# Altium footprint library POT_16MM_TH_RA.PcbLib: 1 footprints
Each footprint in its own frame and in the unit in brackets; x right, y up, seen from the top. Pads: shape width x height; smd on the part's side, far side on the other; paste and mask are expansions set on the pad; w line width, h text height; cw(c..) or ccw(c..) is an arc to the next point about the centre after c.
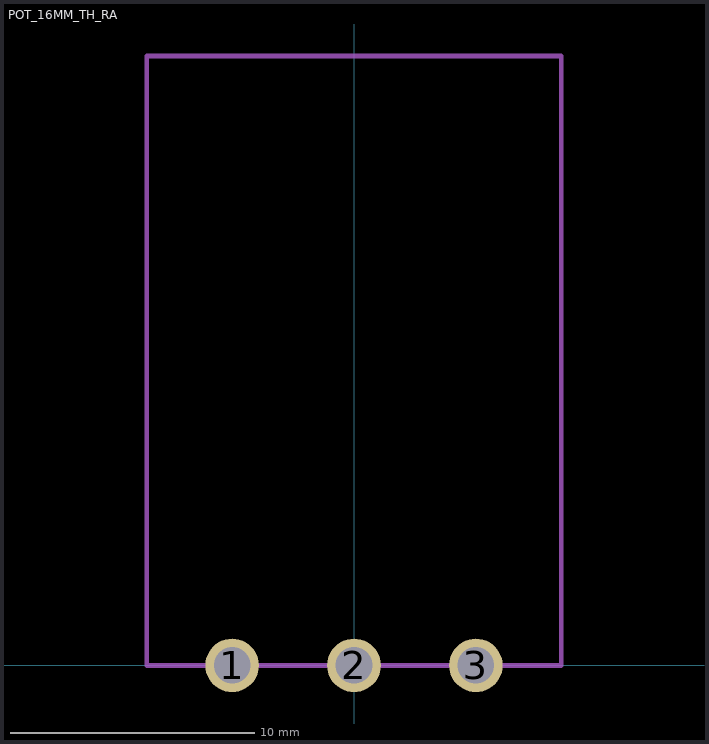
[diagram p0: the footprint, top view; thin cyan lines are the x and y axes]

## POT_16MM_TH_RA [mm] "Potentiometer, 16mm, Through-Hole, Right-Angle"
height 10.9
pads (3):
  round 2.2 hole 1.5: 1(-5,0) 2(0,0) 3(5,0)
Courtyards/Models-Top:
  lines w0.2: -8.5,0 8.5,0 8.5,25 -8.5,25 -8.5,0
  text ".Designator" at -4,15 h1.52
Design Notes:
  text "Clearance 1.8mm" at -4,23 h1
3D body: height 27.4, standoff 1.8, extent -3.175,13.325 3.175,19.675
3D body: height 10.9, standoff 1.8, extent -8.5,8.003 8.5,24.997